# Altium schematic symbol library Diversos.SchLib: 8 symbols
Pins are listed as number, name and electrical type; pins without a type are passive.

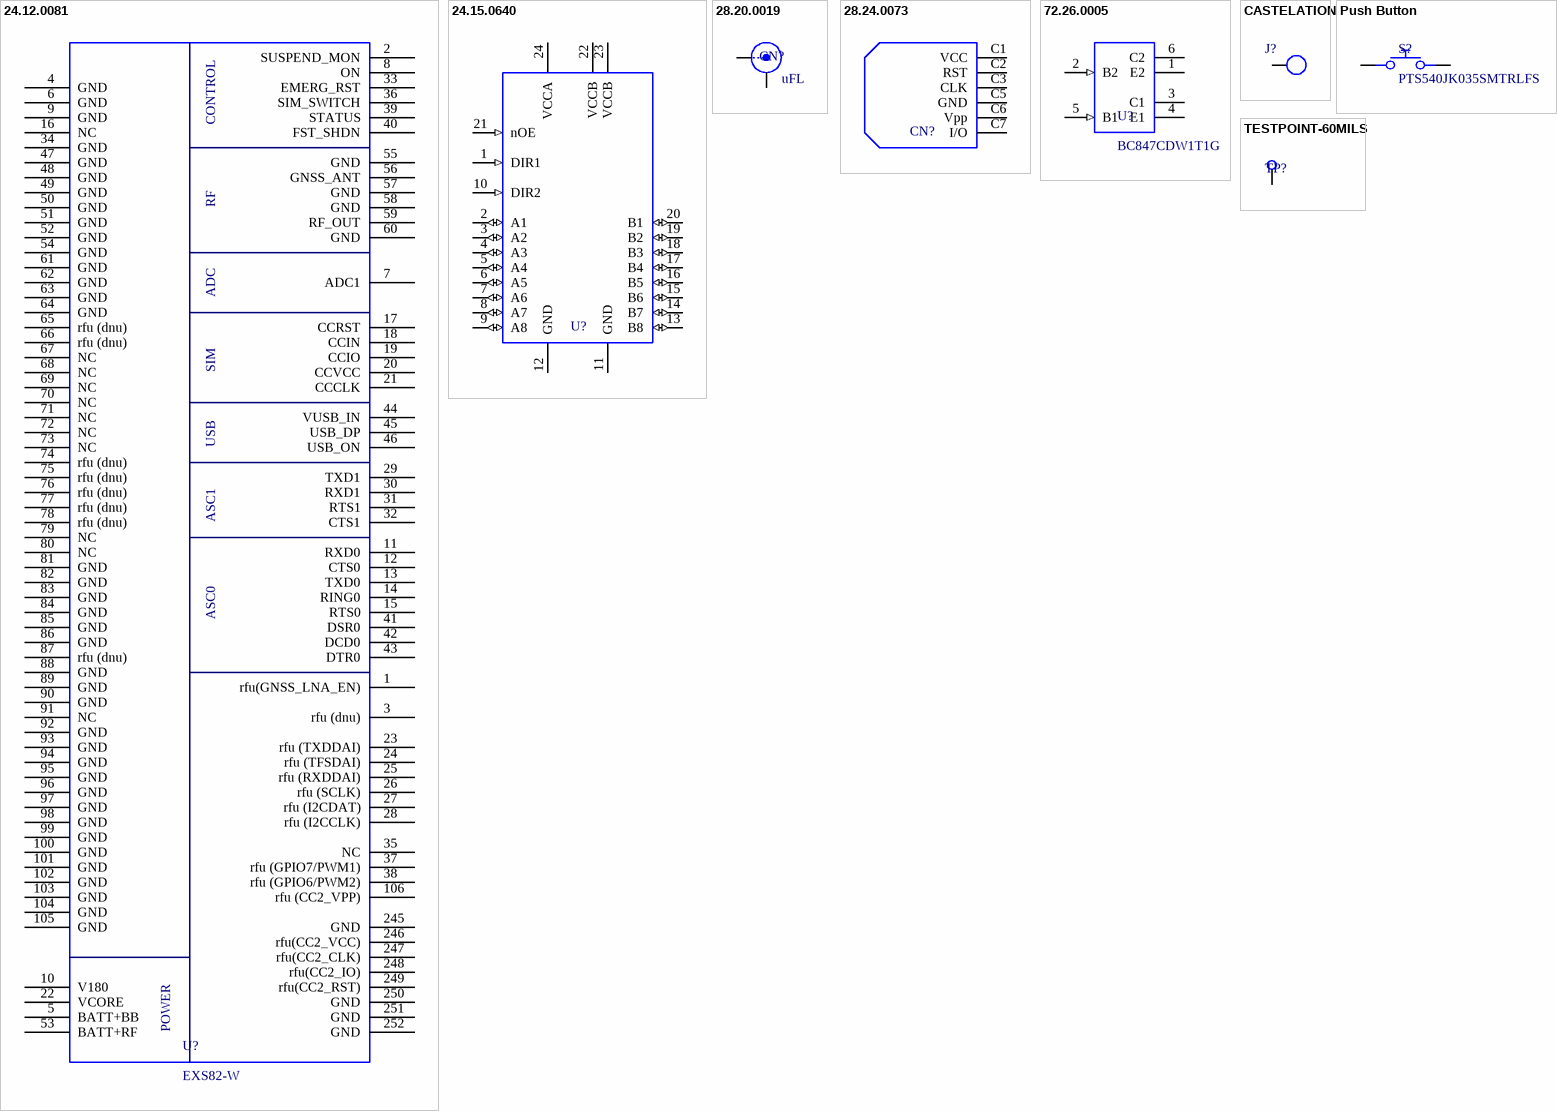
[diagram p0: symbols 24.12.0081 to TESTPOINT-60MILS]

## 24.12.0081
designator U?, comment EXS82-W
CIRCUITO INTEGRADO DIG MOD COMUNICACAO MULTI REDES EXS82-W; Manufacturer: THALES; ComponentLink1Description: Datasheet; ComponentLink1URL: https://drive.google.com/file/d/1VP1ofSdQ22rLwBKP-9rS1Zx3N4SnHXcM/view?usp=sharing; Supplier 1: THALES; Part Number: EXS82-W; Category: IC - Communication Module; Supplier Part Number 1: EXS82-W; Library Ref: Diversos
footprint EXS82W
pins: 1 rfu(GNSS_LNA_EN), 2 SUSPEND_MON, 3 rfu (dnu), 4 GND, 5 BATT+BB, 6 GND, 7 ADC1, 8 ON, 9 GND, 10 V180, 11 RXD0, 12 CTS0, 13 TXD0, 14 RING0, 15 RTS0, 16 NC, 17 CCRST, 18 CCIN, 19 CCIO, 20 CCVCC, 21 CCCLK, 22 VCORE, 23 rfu (TXDDAI), 24 rfu (TFSDAI), 25 rfu (RXDDAI), 26 rfu (SCLK), 27 rfu (I2CDAT), 28 rfu (I2CCLK), 29 TXD1, 30 RXD1, 31 RTS1, 32 CTS1, 33 EMERG_RST, 34 GND, 35 NC, 36 SIM_SWITCH, 37 rfu (GPIO7/PWM1), 38 rfu (GPIO6/PWM2), 39 STATUS, 40 FST_SHDN, 41 DSR0, 42 DCD0, 43 DTR0, 44 VUSB_IN, 45 USB_DP, 46 USB_ON, 47 GND, 48 GND, 49 GND, 50 GND, 51 GND, 52 GND, 53 BATT+RF, 54 GND, 55 GND, 56 GNSS_ANT, 57 GND, 58 GND, 59 RF_OUT, 60 GND, 61 GND, 62 GND, 63 GND, 64 GND, 65 rfu (dnu), 66 rfu (dnu), 67 NC, 68 NC, 69 NC, 70 NC, 71 NC, 72 NC, 73 NC, 74 rfu (dnu), 75 rfu (dnu), 76 rfu (dnu), 77 rfu (dnu), 78 rfu (dnu), 79 NC, 80 NC, 81 GND, 82 GND, 83 GND, 84 GND, 85 GND, 86 GND, 87 rfu (dnu), 88 GND, 89 GND, 90 GND, 91 NC, 92 GND, 93 GND, 94 GND, 95 GND, 96 GND, 97 GND, 98 GND, 99 GND, 100 GND, 101 GND, 102 GND, 103 GND, 104 GND, 105 GND, 106 rfu (CC2_VPP), 245 GND, 246 rfu(CC2_VCC), 247 rfu(CC2_CLK), 248 rfu(CC2_IO), 249 rfu(CC2_RST), 250 GND, 251 GND, 252 GND
text: CONTROL; RF; ADC; SIM; USB; ASC1; ASC0; POWER

## 24.15.0640
designator U?, comment SN74AXC8T245RJWR  (value not drawn)
CID CONVERSOR NIVEL ALIMENTACAO DUPLA DIRECAO CONTROLADA 8 BITS 0.65V - 3.6V; Manufacturer: Texas Instruments; Number of Elements: 2; Number of Bits per Element: 8; Output Type: 3-State; Current - Output High, Low: 12mA, 12mA; Voltage - Supply: 0.65V ~ 3.6V; ComponentLink1Description: Datasheet; ComponentLink1URL: https://www.ti.com/lit/ds/symlink/sn74axc8t245.pdf?HQS=dis-dk-null-digikeymode-dsf-pf-null-wwe&ts=1658503114132; ComponentLink2Description: Mouser Link; Part Number: SN74AXC8T245RJWR; Price: 1=, 10=, 100=, 500= (USD); Input Type: -; Library Ref: Diversos; Operating Temperature: -40 C ~ 125 C; Package / Case: UFQFN-24
footprint UFQFN-24
pins: 1 DIR1 (in), 2 A1 (io), 3 A2 (io), 4 A3 (io), 5 A4 (io), 6 A5 (io), 7 A6 (io), 8 A7 (io), 9 A8 (io), 10 DIR2 (in), 11 GND (power), 12 GND (power), 13 B8 (io), 14 B7 (io), 15 B6 (io), 16 B5 (io), 17 B4 (io), 18 B3 (io), 19 B2 (io), 20 B1 (io), 21 nOE (in), 22 VCCB (power), 23 VCCB (power), 24 VCCA (power)

## 28.20.0019
designator CN?, comment uFL
CONECTOR MICRO COAXIAL 50 OHMS SMD; ComponentLink1Description: Datasheet; Price: 1=, 10=, 100=, 500= (USD); Library Ref: Diversos; Value: uFL
footprint CONECTOR-MICRO-COAXIAL-SMD
pins: 1 SIG, 2 GND (power), 3 GND (power)

## 28.24.0073
designator CN?, comment SIMCARD-6X6  (value not drawn)
CONECTOR FM NANO-D 6 VIAS - BRONZE; ComponentLink1Description: Datasheet; Price: 1=, 10=, 100=, 500= (USD); Library Ref: Diversos; Value: SIMCARD-6X6
footprint CONECTOR-NANO-6_VIAS
pins: C1 VCC, C2 RST, C3 CLK, C5 GND, C6 Vpp, C7 I/O

## 72.26.0005
designator U?, comment BC847CDW1T1G
TRANSISTOR DUPLO NPN BC847 SMD SOT-363; Manufacturer: ON Semiconductor; Current - Collector (Ic) (Max): 100mA; Voltage - Collector Emitter Breakdown (Max): 45V; Vce Saturation (Max) @ Ib, Ic: 600mV @ 5mA, 100mA; Current - Collector Cutoff (Max): 15nA (ICBO); DC Current Gain (hFE) (Min) @ Ic, Vce: 420 @ 2mA, 5V; Power Dissipation (Max): 380mW; Frequency - Transition: 100MHz; Transistor Type: 2 NPN (Dual); ComponentLink1Description: Datasheet; ComponentLink1URL: https://www.onsemi.com/pdf/datasheet/bc846bdw1t1-d.pdf; ComponentLink2Description: Mouser Link; Part Number: BC847CDW1T1G; Price: 1=, 10=, 100= (USD); Mounting Type: Surface Mount; Operating Temperature (Min - Máx): -55 C ~ 150 C; Library Ref: Diversos; Packaging: SOT-363
footprint SOT-363
pins: 1 E2 (oe), 2 B2 (in), 3 C1 (oc), 4 E1 (oe), 5 B1 (in), 6 C2 (oc)

## CASTELATION
designator J?  (value not drawn)
CONECTOR CASTELATION; ComponentLink1Description: Datasheet; Price: 1=, 10=, 100=, 500= (USD); Library Ref: Diversos; Value: CASTELATION
footprint CASTELATION
pins: 1

## Push Button
designator S?, comment PTS540JK035SMTRLFS
TACTILE SWITCH SPST 0.05A 12VDC SMD; Manufacturer: C&K Switches; Voltage Rating (DC): 12V; Current Rating: 50mA; Switch Function: Off-On; Operating Force: 230gf; Library Control - Checked Footprint: Yes; Library Control - Person that Checked Schematic: Nícolas; Bounce time (MAX): 10ms; ComponentLink1Description: Datasheet; ComponentLink1URL: https://www.mouser.com/datasheet/2/60/pts540-1841856.pdf; ComponentLink2Description: Mouser Link; ComponentLink2URL: https://www.mouser.com/ProductDetail/CK/PTS540JK035SMTRLFS?qs=nsc5Ve2%252BdoHscnqTjIh87g%3D%3D; Supplier 1: Mouser; Part Number: PTS540JK035SMTRLFS; Category: Tactile Switches; Pricing 1: 1=0,18, 10=0,174, 100=0,15, 500=0,122, 1000=0,103 (USD); Throw Configuration: SPST; Orientation: Straight; Supplier Part Number 1: 611-PTS540JK035SMTRL; Library Ref: Diversos; Library Control - Checked Schematic: Yes; Library Control - Person that Checked Footprint: Nícolas; Library Control - Person that did the Last Update Schematic: Nícolas
footprint PUSH_BUTTON
pins: 1, 2

## TESTPOINT-60MILS
designator TP?  (value not drawn)
PONTO DE TESTE PARA CAMA DE PREGO; ComponentLink1Description: Datasheet; Price: 1=, 10=, 100=, 500= (USD); Library Ref: Diversos; Value: TESTPOINT-60MILS
footprint TESTPOINT-60MILS
pins: 1 TP